# Altium footprint library Signetik-passives.PcbLib: 52 footprints (part 2 of 4)
Each footprint in its own frame and in the unit in brackets; x right, y up, seen from the top. Pads: shape width x height; smd on the part's side, far side on the other; paste and mask are expansions set on the pad; w line width, h text height; cw(c..) or ccw(c..) is an arc to the next point about the centre after c.
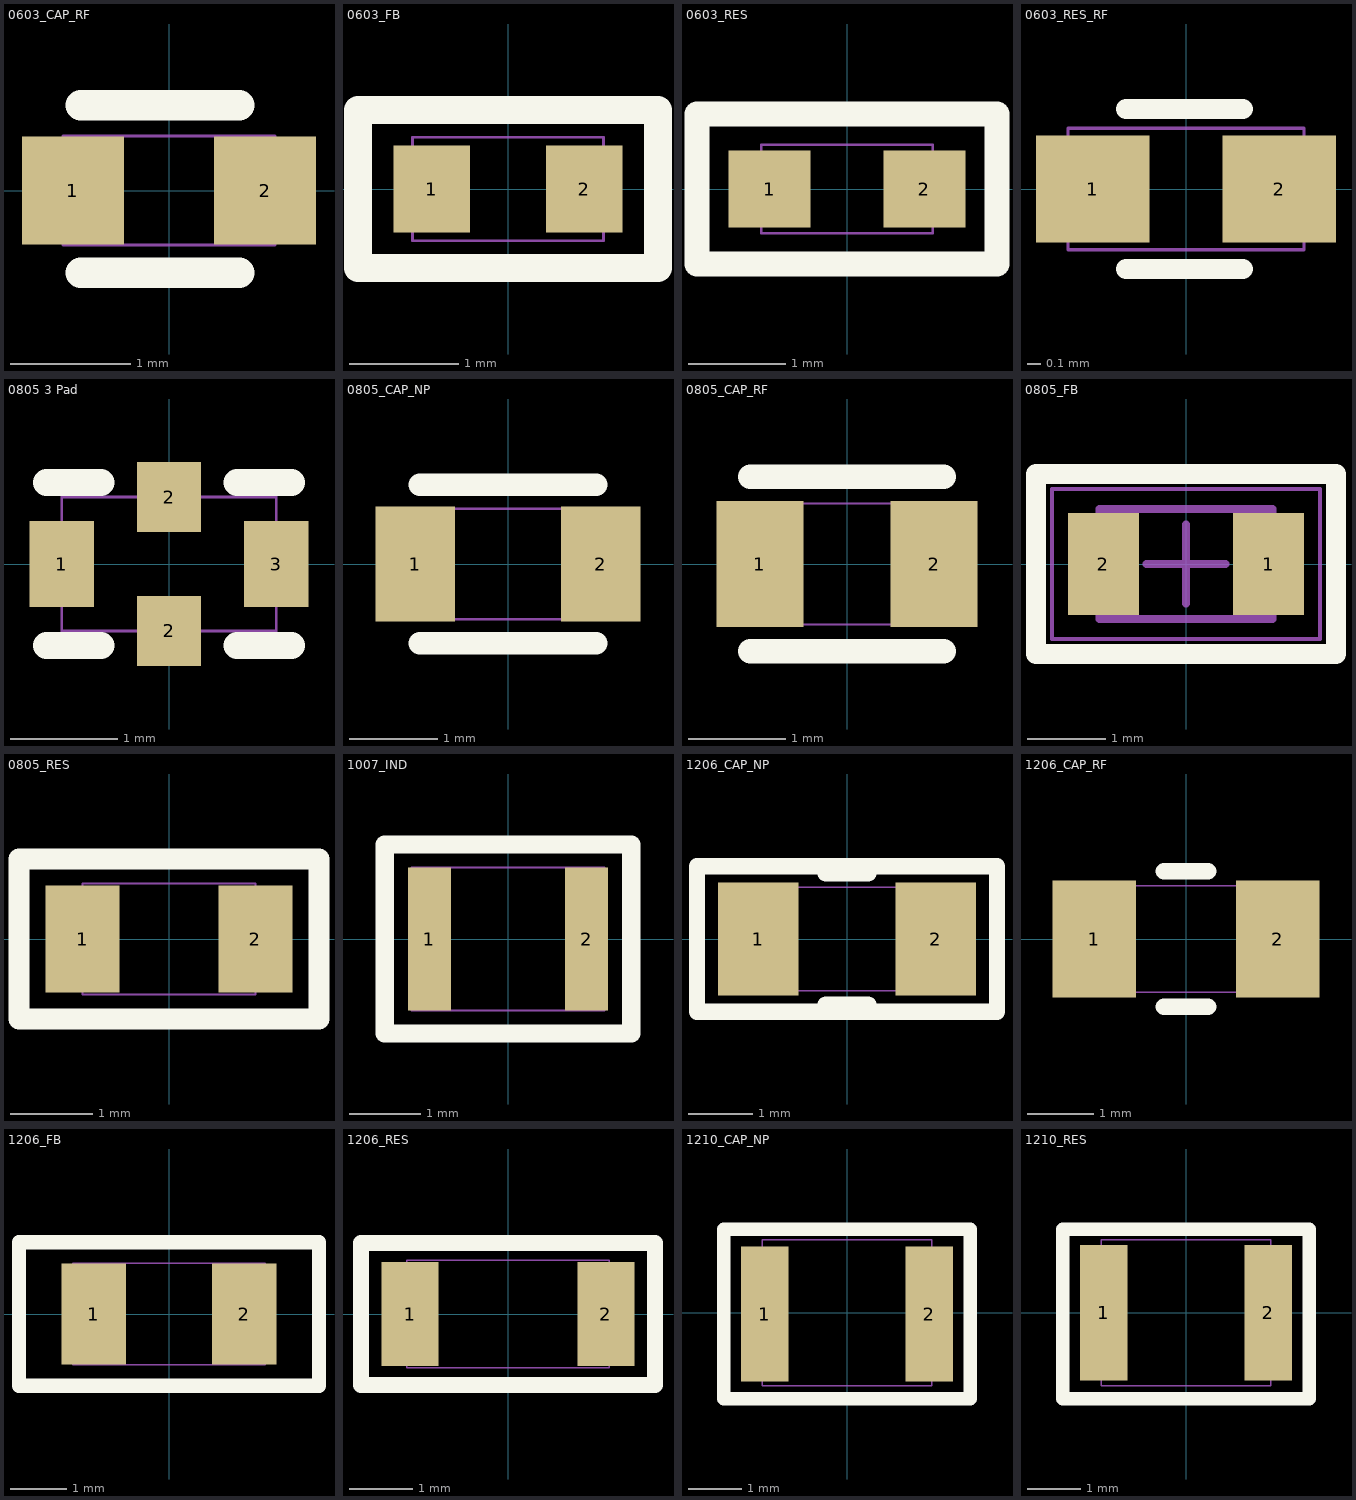
[diagram p1: the footprints below, top view; thin cyan lines are the x and y axes]

## 0603_CAP_RF [mm] "0603 (1608) SMD Capacitor"
height 0.95
pads (2):
  rect 0.85x0.9 smd: 1(-0.8,0) 2(0.8,0)
Top Overlay:
  lines w0.254: -0.737,-0.686 0.584,-0.686 ; -0.737,0.711 0.584,0.711
Mechanical 13:
  lines w0.025: -0.885,-0.455 -0.885,0.455 0.885,0.455 0.885,-0.455 -0.885,-0.455
  text ".Designator" at 0.885,-0.455 h0.76
3D body "CAP 0603.STEP": height 0.75, standoff -0.08, extent -0.8,-0.412 0.8,0.412

## 0603_FB [mm] "0603 (1608) Ferrite Bead"
height 0.95
pads (2):
  rect 0.7x0.8 smd: 1(-0.7,0) 2(0.7,0)
Top Overlay:
  lines w0.254: -1.375,-0.725 -1.375,0.725 1.375,0.725 1.375,-0.725 -1.375,-0.725
Mechanical 13:
  lines w0.025: -0.875,-0.475 0.875,-0.475 0.875,0.475 -0.875,0.475 -0.875,-0.475
  text ".Designator" at 0.875,-0.475 h0.76
3D body "FER 0603.STEP": height 0.77, standoff -0.06, extent -0.8,-0.412 0.8,0.412

## 0603_RES [mm] "0603 (1608) SMD Resistor"
height 0.95
pads (2):
  rect 0.85x0.8 smd: 1(-0.8,0) 2(0.8,0)
Top Overlay:
  lines w0.254: -1.55,-0.775 -1.55,0.775 1.55,0.775 1.55,-0.775 -1.55,-0.775
Mechanical 13:
  lines w0.025: -0.885,-0.455 0.885,-0.455 0.885,0.455 -0.885,0.455 -0.885,-0.455
  text ".Designator" at 0.885,-0.455 h0.76
3D body "RES 0603.STEP": height 0.37, standoff -0.08, extent -0.775,-0.406 0.825,0.394

## 0603_RES_RF [mm] "0603 (1608) SMD Resistor"
height 0.95
pads (2):
  rect 0.85x0.8 smd: 1(-0.7,0) 2(0.7,0)
Top Overlay:
  lines w0.152: -0.45,-0.6 0.425,-0.6 ; -0.45,0.6 0.425,0.6
Mechanical 13:
  lines w0.025: -0.885,-0.455 -0.885,0.455 0.885,0.455 0.885,-0.455 -0.885,-0.455
  text ".Designator" at 0.885,-0.455 h0.76
3D body "RES 0603.STEP": height 0.37, standoff -0.08, extent -0.775,-0.406 0.825,0.394

## 0805 3 Pad [mm] "0805 3 Pad Feed Through Capacitor"
height 0.85
pads (4):
  rect 0.6x0.8 smd: 1(-1,0) 3(1,0)
  rect 0.6x0.65 smd: 2(0,-0.625) 2(0,0.625)
Top Overlay:
  lines w0.254: -1.143,-0.762 -0.635,-0.762 ; -1.143,0.762 -0.635,0.762 ; 0.635,-0.762 1.143,-0.762 ; 0.635,0.762 1.143,0.762
Mechanical 13:
  lines w0.025: -1,-0.625 -1,0.625 1,0.625 1,-0.625 -1,-0.625

## 0805_CAP_NP [mm] "0805 (2012) SMD Capacitor Non Polarized"
height 0.6
pads (2):
  rect 0.9x1.3 smd: 1(-1.05,0) 2(1.05,0)
Top Overlay:
  lines w0.254: -1,-0.9 1,-0.9 ; -1,0.9 1,0.9
Mechanical 13:
  lines w0.025: -1,-0.625 1,-0.625 1,0.625 -1,0.625 -1,-0.625
  text ".Designator" at 1,-0.625 h0.76
3D body "CAP 0805.STEP": height 1.2, standoff -0.08, extent -1,-0.635 1,0.639

## 0805_CAP_RF [mm] "0805 (2012) SMD Capacitor Non Polarized"
height 0.6
pads (2):
  rect 0.9x1.3 smd: 1(-0.9,0) 2(0.9,0)
Top Overlay:
  lines w0.254: -1,-0.9 1,-0.9 ; -1,0.9 1,0.9
Mechanical 13:
  lines w0.025: -1,-0.625 1,-0.625 1,0.625 -1,0.625 -1,-0.625
  text ".Designator" at 1,-0.625 h0.76
3D body "CAP 0805.STEP": height 1.2, standoff -0.08, extent -1,-0.635 1,0.639

## 0805_FB [mm] "Chip Ferrite, 2-Leads, Body 2.00x1.20mm, IPC Medium Density"
height 1.15
pads (2):
  rect 0.9x1.3 smd: 1(1.05,0) 2(-1.05,0)
Top Overlay:
  lines w0.254: -1.905,-1.143 -1.905,1.143 1.905,1.143 1.905,-1.143 -1.905,-1.143
Mechanical 13:
  lines w0.1: -1.1,-0.7 1.1,-0.7 1.1,0.7 -1.1,0.7 -1.1,-0.7
  text ".Designator" at 1.1,-0.7 h0.76
Mechanical 15:
  lines w0.05: -1.7,-0.95 -1.7,0.95 1.7,0.95 1.7,-0.95 -1.7,-0.95
  lines w0.1: -0.5,0 0.5,0 ; 0,-0.5 0,0.5
3D body "FER 0805.STEP": height 1.27, standoff 0, extent -1,-0.637 1,0.637

## 0805_RES [mm] "0805 (2012) SMD Resistor"
height 0.6
pads (2):
  rect 0.9x1.3 smd: 1(-1.05,0) 2(1.05,0)
Top Overlay:
  lines w0.254: -1.825,-0.975 -1.825,0.975 1.825,0.975 1.825,-0.975 -1.825,-0.975
Mechanical 13:
  lines w0.025: -1.05,-0.675 1.05,-0.675 1.05,0.675 -1.05,0.675 -1.05,-0.675
  text ".Designator" at 1.05,-0.675 h0.76
3D body "RES 0805.STEP": height 0.52, standoff -0.08, extent -1,-0.615 1,0.635

## 1007_IND [mm] "1007 (2518) Inductor"
height 2
pads (2):
  rect 0.6x2 smd: 1(-1.1,0) 2(1.1,0)
Top Overlay:
  lines w0.254: -1.725,-1.325 -1.725,1.325 1.725,1.325 1.725,-1.325 -1.725,-1.325
Mechanical 13:
  lines w0.025: -1.35,-1 1.35,-1 1.35,1 -1.35,1 -1.35,-1
  text ".Designator" at 1.35,-1 h0.76
3D body "IND_1007.STEP": height 1.71, standoff -0.09, extent -1.27,-0.889 1.23,0.911

## 1206_CAP_NP [mm] "1206 (3216) SMD Capacitor Non Polarized"
height 1.8
pads (2):
  rect 1.25x1.75 smd: 1(-1.375,0) 2(1.375,0)
Top Overlay:
  lines w0.254: -0.33,-1.016 0.33,-1.016 ; -0.33,1.016 0.33,1.016 ; -2.325,-1.125 2.325,-1.125 2.325,1.125 -2.325,1.125 -2.325,-1.125
Mechanical 13:
  lines w0.025: -1.6,-0.8 -1.6,0.8 1.6,0.8 1.6,-0.8 -1.6,-0.8
  text ".Designator" at 2.032,-0.787 h0.76
3D body "CAP 1206-1.2mm.STEP": height 1.2, standoff 0, extent -1.6,-0.8 1.6,0.8

## 1206_CAP_RF [mm] "1206 (3216) SMD Capacitor Non Polarized"
height 1.8
pads (2):
  rect 1.25x1.75 smd: 1(-1.375,0) 2(1.375,0)
Top Overlay:
  lines w0.254: -0.33,-1.016 0.33,-1.016 ; -0.33,1.016 0.33,1.016
Mechanical 13:
  lines w0.025: -1.6,-0.8 1.6,-0.8 1.6,0.8 -1.6,0.8 -1.6,-0.8
  text ".Designator" at 1.6,-0.8 h0.76
3D body "CAP 1206-1.2mm.STEP": height 1.2, standoff 0, extent -1.6,-0.8 1.6,0.8

## 1206_FB [mm] "1206 (3216) SMD Ferrite Bead"
height 1.3
pads (2):
  rect 1.14x1.78 smd: 1(-1.33,0) 2(1.33,0)
Top Overlay:
  lines w0.254: -2.65,-1.27 2.65,-1.27 2.65,1.27 -2.65,1.27 -2.65,-1.27
Mechanical 13:
  lines w0.025: -1.7,-0.9 -1.7,0.9 1.7,0.9 1.7,-0.9 -1.7,-0.9
  text ".Designator" at 1.7,-0.9 h0.76
3D body "FER 1206.STEP": height 1.21, standoff -0.09, extent -1.6,-0.8 1.6,0.8

## 1206_RES [mm] "1206 (3216) SMD Resistor"
height 0.65
pads (2):
  rect 0.9x1.65 smd: 1(-1.55,0) 2(1.55,0)
Top Overlay:
  lines w0.254: -2.325,-1.125 -2.325,1.125 2.325,1.125 2.325,-1.125 -2.325,-1.125
Mechanical 13:
  lines w0.025: -1.6,-0.85 1.6,-0.85 1.6,0.85 -1.6,0.85 -1.6,-0.85
  text ".Designator" at 1.6,-0.85 h0.76
3D body "RES 1206.STEP": height 0.55, standoff -0.05, extent -1.6,-0.8 1.6,0.8

## 1210_CAP_NP [mm] "1210 (3225) SMD Capacitor Non Polarized"
height 1.05
pads (2):
  rect 0.9x2.55 smd: 1(-1.55,-0.025) 2(1.55,-0.025)
Top Overlay:
  lines w0.254: -2.325,-1.625 -2.325,1.575 2.325,1.575 2.325,-1.625 -2.325,-1.625
Mechanical 13:
  lines w0.025: -1.6,-1.375 1.6,-1.375 1.6,1.375 -1.6,1.375 -1.6,-1.375
  text ".Designator" at 1.6,-1.375 h0.76
3D body "CAP 1210-1.4mm.STEP": height 1.4, standoff 0, extent -1.6,-1.275 1.6,1.225

## 1210_RES [mm] "1210 (3225) SMD Resistor"
height 0.6
pads (2):
  rect 0.9x2.55 smd: 1(-1.55,0) 2(1.55,0)
Top Overlay:
  lines w0.254: -2.325,-1.625 2.325,-1.625 2.325,1.575 -2.325,1.575 -2.325,-1.625
Mechanical 13:
  lines w0.025: -1.6,-1.375 -1.6,1.375 1.6,1.375 1.6,-1.375 -1.6,-1.375
  text ".Designator" at 1.6,-1.27 h0.76
3D body "RES 1210.STEP": height 0.6, standoff 0, extent -1.6,-1.25 1.6,1.25